# Altium schematic symbol library DEV-15583.SchLib: 1 symbol
Pins are listed as number, name and electrical type; pins without a type are passive.

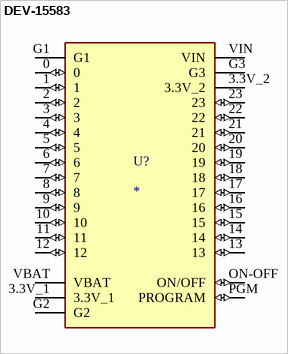
[diagram p0: symbol DEV-15583]

## DEV-15583
designator U?
RT1062 Teensy 4.0 i.MX ARMÂ® CortexÂ®-M7 MPU Embedded Evaluation Board; MP: DEV-15583; MF: {'manufacturer': u'SparkFun Electronics'}; Value: *; Package: None; Price: None; Availability: Unavailable
footprint MODULE_DEV-15583
pins: 0 (io), 1 (io), 2 (io), 3 (io), 3.3V_1 (power), 3.3V_2 (power), 4 (io), 5 (io), 6 (io), 7 (io), 8 (io), 9 (io), 10 (io), 11 (io), 12 (io), 13 (io), 14 (io), 15 (io), 16 (io), 17 (io), 18 (io), 19 (io), 20 (io), 21 (io), 22 (io), 23 (io), G1 (power), G2 (power), G3 (power), ON-OFF ON/OFF (io), PGM PROGRAM (io), VBAT (power), VIN (power)